# Altium schematic symbol library RES(10K, SMD-0603).SchLib: 1 symbol
Pins are listed as number, name and electrical type; pins without a type are passive.

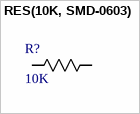
[diagram p0: symbol RES(10K, SMD-0603)]

## RES(10K, SMD-0603)
designator R?, comment 10K
RES(10K, SMD-0603); Manufacturer: Vishay Dale; Manufacturer_Part_Number: CRCW060310K0DHEAP; Package: SMD-0603; Datasheet: https://www.vishay.com/docs/20036/dcrcwpe3.pdf; Digikey_Link: https://www.digikey.it/en/products/detail/vishay-dale/CRCW060310K0DHEAP/3593923?s=N4IgTCBcDaIMICU4HUAMA2VBmAjKg0qgCIASAogIIAKIAugL5A
footprint RES_ERJPA3_PAN
pins: 1, 2